# EAGLE library part PCA9514A (library sf-bluegiga)
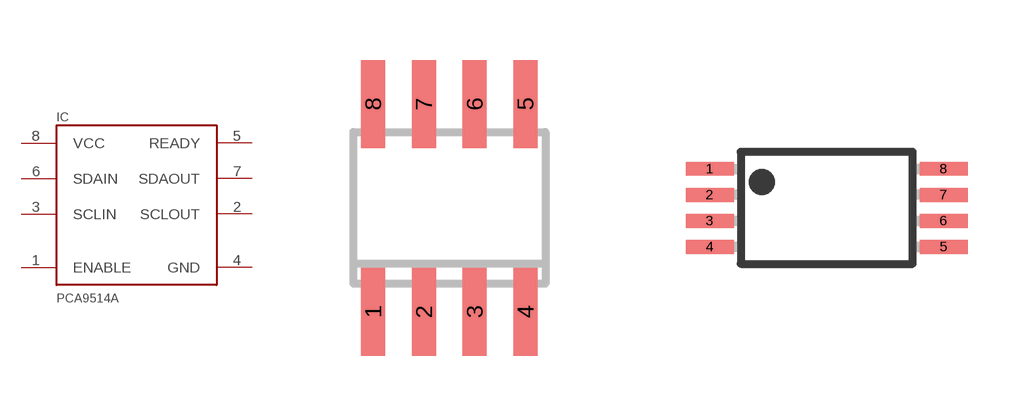
[diagram p2: symbol with the pads of SO8; footprints SO8, TSSOP8]

Designator prefix IC

## PCA9514AD  [SO8]
1  ENABLE
2  SCLOUT
3  SCLIN
4  GND  pwr
5  READY
6  SDAIN
7  SDAOUT
8  VCC  pwr

## PCA9514ADP  [TSSOP8]
Pads as for SO8

## Footprint SO8 (pad centres in mm)
SMALL OUTLINE INTEGRATED CIRCUIT
smd 0.6 x 2.2: 1 -1.905,-2.6; 2 -0.635,-2.6; 3 0.635,-2.6; 4 1.905,-2.6; 5 1.905,2.6; 6 0.635,2.6; 7 -0.635,2.6; 8 -1.905,2.6

## Footprint TSSOP8 (pad centres in mm)
Plastic Small Outline
smd 1.2 x 0.35: 1 -2.925,0.975; 2 -2.925,0.325; 3 -2.925,-0.325; 4 -2.925,-0.975; 5 2.925,-0.975; 6 2.925,-0.325; 7 2.925,0.325; 8 2.925,0.975